# Altium integrated library Analog Devices Interface and Isolation Digital Isolators.IntLib: 645 symbols (part 29 of 36)
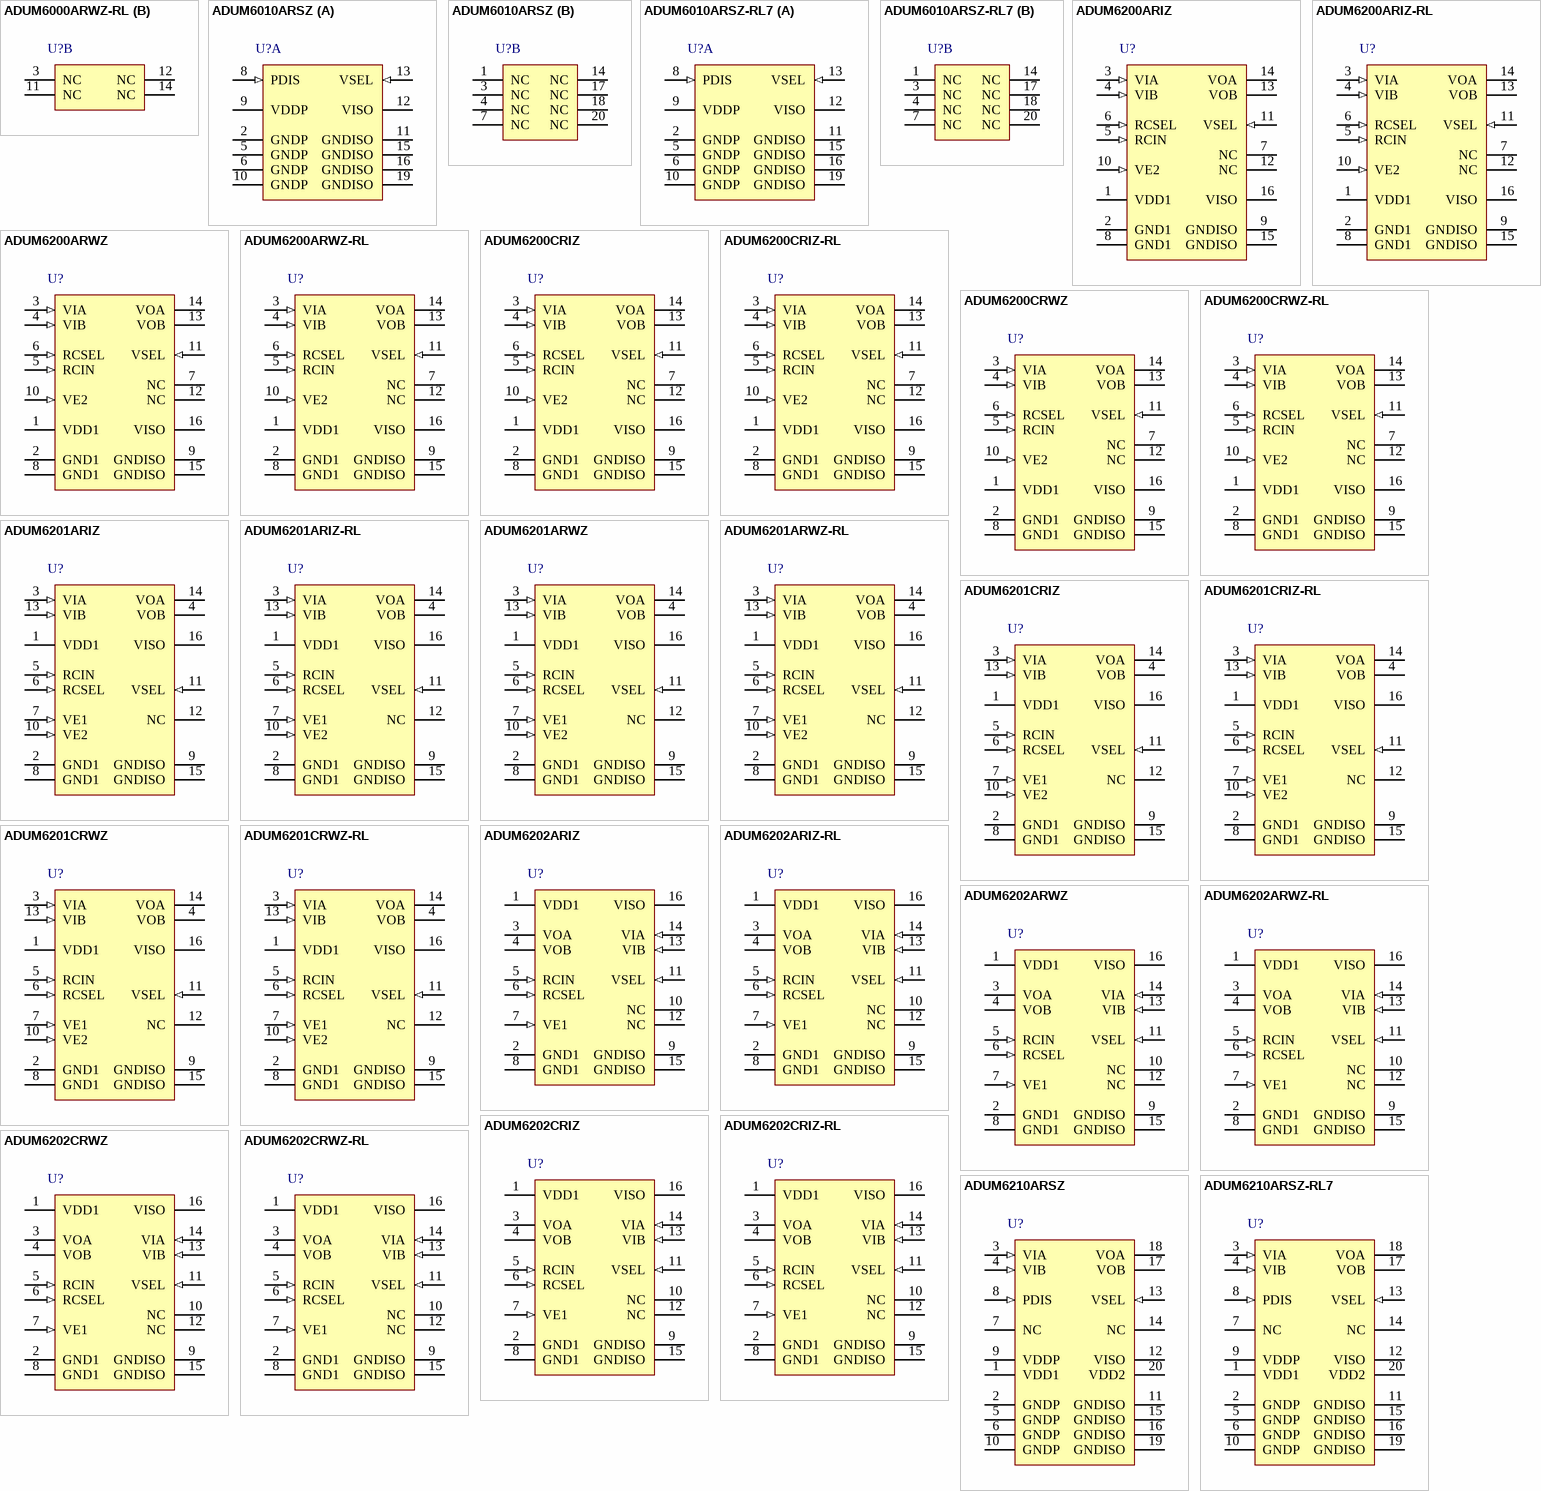
[diagram p48: symbols ADUM6000ARWZ-RL to ADUM6210ARSZ-RL7]

## ADUM6200CRWZ-RL
designator U?
Dual Channel, 5 kV Isolator with Integrated DC / DC Converter, 5 KV rms Insulation Rating, 25 Mbps Data Rate, 70 ns Delay, Industrial, 16-pin SOIC (RW-16), Reel; Manufacturer: Analog Devices; PartNumber: ADUM6200CRWZ-RL; Insulation Rating (kVrms): 5; Max Data Rate: 25Mbps; Prop Delay: 70ns; DatasheetVersion: Rev. C; PackageVersion: 032707-B, 03/2007; PackageReference: RW-16; PackageDescription: 16-Pin Standard Small Outline Package, Body 10.3 x 7.5 mm, Pitch 1.27 mm; Supplier 1: Mouser; Supplier Part Number 1: 584-ADUM6200CRWZ-R; Max Operating Temp (degreesC): 105; Mounting Technology: Surface Mount; Code_JEDEC: MS-013-AA; ComponentLink1Description: Manufacturer URL; ComponentLink1URL: http://www.analog.com/en/index.html; ComponentLink2Description: Datasheet; ComponentLink2URL: http://www.analog.com/static/imported-files/data_sheets/ADuM6200_6201_6202.pdf; ComponentLink3Description: Package Specification; ComponentLink3URL: http://www.analog.com/static/imported-files/packages/PKG_PDF/SOIC_WIDE%20%28RW%29/RW_16.pdf
footprint ADI-RW-16_N (SOIC, 16-Leads, Body 10.3x7.5mm, Pitch 1.27mm, IPC Medium Density)
footprint ADI-RW-16_L (SOIC, 16-Leads, Body 10.3x7.5mm, Pitch 1.27mm, IPC High Density)
footprint ADI-RW-16_M (SOIC, 16-Leads, Body 10.3x7.5mm, Pitch 1.27mm, IPC Low Density)
pins: 1 VDD1 (power) "Primary Supply Voltage, 3.0 V to 5.5 V.", 2 GND1 (power) "Ground Reference for the Primary Side of the Isolator. Pin 2 and Pin 8 are internally connected to each other, and it is recommended that both pins be connected to a common ground.", 3 VIA (in) "Logic Input A.", 4 VIB (in) "Logic Input B.", 5 RCIN (in) "Regulation Control Input. This pin must be connected to the RCOUT pin of a master isoPower device or tied low. This pin must not be tied high if RCSEL is low; this combination causes excessive voltage on the secondary side (See Datasheet)", 6 RCSEL (in) "Control Input. Determines self-regulation mode (RCSEL high) or slave mode (RCSEL low), allowing external regulation. This pin is weakly pulled to the high state. In noisy environments, tie this pin either high or low.", 7 NC "No Internal Connection.", 8 GND1 (power) "Ground Reference for the Primary Side of the Isolator. Pin 2 and Pin 8 are internally connected to each other, and it is recommended that both pins be connected to a common ground.", 9 GNDISO (power) "Ground Reference for the Secondary Side of the Isolator. Pin 9 and Pin 15 are internally connected to each other, and it is recommended that both pins be connected to a common ground.", 10 VE2 (in) "Data Enable Input. When this pin is high or not connected, the secondary outputs are active; when this pin is low, the outputs are in a high-Z state.", 11 VSEL (in) "Output Voltage Selection. When VSEL = VISO, the VISO setpoint is 5.0 V. When VSEL = GNDISO, the VISO setpoint is 3.3 V. In slave regulation mode, this pin has no function.", 12 NC "No Internal Connection.", 13 VOB (hiz) "Logic Output B.", 14 VOA (hiz) "Logic Output A.", 15 GNDISO (power) "Ground Reference for the Secondary Side of the Isolator. Pin 9 and Pin 15 are internally connected to each other, and it is recommended that both pins be connected to a common ground.", 16 VISO (power) "Secondary Supply Voltage. Output for secondary side isolated data channels and external loads."

## ADUM6201ARIZ
designator U?
Dual Channel, 5 kV Isolator with Integrated DC / DC Converter, 5 KV rms Insulation Rating, 1 Mbps Data Rate, 100 ns Delay, Industrial, 16-pin SOIC (RI-16-1), Tube; Manufacturer: Analog Devices; PartNumber: ADUM6201ARIZ; Insulation Rating (kVrms): 5; Max Data Rate: 1Mbps; Prop Delay: 100ns; DatasheetVersion: Rev. C; PackageVersion: 10-12-2010-A, 02/2012; PackageReference: RI-16-1; PackageDescription: 16-Pin Standard Small Outline Package, with Increased Creepage, Body 12.8 x 7.5 mm, Pitch 1.27 mm; Supplier 1: Digi-Key; Supplier Part Number 1: ADUM6201ARIZ-ND; Max Operating Temp (degreesC): 105; Mounting Technology: Surface Mount; Code_JEDEC: MS-013-AC; ComponentLink1Description: Manufacturer URL; ComponentLink1URL: http://www.analog.com/en/index.html; ComponentLink2Description: Datasheet; ComponentLink2URL: http://www.analog.com/static/imported-files/data_sheets/ADuM6200_6201_6202.pdf; ComponentLink3Description: Package Specification; ComponentLink3URL: http://www.analog.com/static/imported-files/data_sheets/ADuM2400_2401_2402.pdf
footprint ADI-RI-16-1_N (SOIC, 16-Leads, Body 12.8x7.5mm, Pitch 1.27mm, IPC Medium Density)
footprint ADI-RI-16-1_L (SOIC, 16-Leads, Body 12.8x7.5mm, Pitch 1.27mm, IPC High Density)
footprint ADI-RI-16-1_M (SOIC, 16-Leads, Body 12.8x7.5mm, Pitch 1.27mm, IPC Low Density)
pins: 1 VDD1 (power) "Primary Supply Voltage, 3.0 V to 5.5 V.", 2 GND1 (power) "Ground 1. Ground reference for the isolator primary side. Pin 2 and Pin 8 are internally connected to each other, and it is recommended that both pins be connected to a common ground.", 3 VIA (in) "Logic Input A.", 4 VOB (hiz) "Logic Output B.", 5 RCIN (in) "Regulation Control Input. This pin must be connected to the RCOUT pin of a master isoPower device or tied low. Note that this pin must not be tied high if RCSEL is low; this combination causes excessive voltage on the (See Datasheet)", 6 RCSEL (in) "Control Input. Determines self-regulation mode (RCSEL high) or slave mode (RCSEL low), allowing external regulation. This pin is weakly pulled to the high state. In noisy environments, tie this pin either high or low.", 7 VE1 (in) "Data Enable Input. When this pin is high or not connected, the primary output is active; when this pin is low, the output is in a high-Z state.", 8 GND1 (power) "Ground 1. Ground reference for the isolator primary side. Pin 2 and Pin 8 are internally connected to each other, and it is recommended that both pins be connected to a common ground.", 9 GNDISO (power) "Ground Reference for Isolator Side 2. Pin 9 and Pin 15 are internally connected to each other, and it is recommended that both pins be connected to a common ground.", 10 VE2 (in) "Data Enable Input. When this pin is high or not connected, the secondary outputs are active; when this pin is low, the outputs are in a high-Z state.", 11 VSEL (in) "Output Voltage Selection. When VSEL = VISO, the VISO setpoint is 5.0 V. When VSEL = GNDISO, the VISO setpoint is 3.3 V. In slave regulation mode, this pin has no function.", 12 NC "No Internal Connection.", 13 VIB (in) "Logic Input B.", 14 VOA (hiz) "Logic Output A.", 15 GNDISO (power) "Ground Reference for Isolator Side 2. Pin 9 and Pin 15 are internally connected to each other, and it is recommended that both pins be connected to a common ground.", 16 VISO (power) "Secondary Supply Voltage. Output for secondary side isolated data channels and external loads."

## ADUM6201ARIZ-RL
designator U?
Dual Channel, 5 kV Isolator with Integrated DC / DC Converter, 5 KV rms Insulation Rating, 1 Mbps Data Rate, 100 ns Delay, Industrial, 16-pin SOIC (RI-16-1), Reel; Manufacturer: Analog Devices; PartNumber: ADUM6201ARIZ-RL; Insulation Rating (kVrms): 5; Max Data Rate: 1Mbps; Prop Delay: 100ns; DatasheetVersion: Rev. C; PackageVersion: 10-12-2010-A, 02/2012; PackageReference: RI-16-1; PackageDescription: 16-Pin Standard Small Outline Package, with Increased Creepage, Body 12.8 x 7.5 mm, Pitch 1.27 mm; Supplier 1: Digi-Key; Supplier Part Number 1: ADUM6201ARIZ-RL-ND; Max Operating Temp (degreesC): 105; Mounting Technology: Surface Mount; Code_JEDEC: MS-013-AC; ComponentLink1Description: Manufacturer URL; ComponentLink1URL: http://www.analog.com/en/index.html; ComponentLink2Description: Datasheet; ComponentLink2URL: http://www.analog.com/static/imported-files/data_sheets/ADuM6200_6201_6202.pdf; ComponentLink3Description: Package Specification; ComponentLink3URL: http://www.analog.com/static/imported-files/data_sheets/ADuM2400_2401_2402.pdf
footprint ADI-RI-16-1_N (SOIC, 16-Leads, Body 12.8x7.5mm, Pitch 1.27mm, IPC Medium Density)
footprint ADI-RI-16-1_L (SOIC, 16-Leads, Body 12.8x7.5mm, Pitch 1.27mm, IPC High Density)
footprint ADI-RI-16-1_M (SOIC, 16-Leads, Body 12.8x7.5mm, Pitch 1.27mm, IPC Low Density)
pins: 1 VDD1 (power) "Primary Supply Voltage, 3.0 V to 5.5 V.", 2 GND1 (power) "Ground 1. Ground reference for the isolator primary side. Pin 2 and Pin 8 are internally connected to each other, and it is recommended that both pins be connected to a common ground.", 3 VIA (in) "Logic Input A.", 4 VOB (hiz) "Logic Output B.", 5 RCIN (in) "Regulation Control Input. This pin must be connected to the RCOUT pin of a master isoPower device or tied low. Note that this pin must not be tied high if RCSEL is low; this combination causes excessive voltage on the (See Datasheet)", 6 RCSEL (in) "Control Input. Determines self-regulation mode (RCSEL high) or slave mode (RCSEL low), allowing external regulation. This pin is weakly pulled to the high state. In noisy environments, tie this pin either high or low.", 7 VE1 (in) "Data Enable Input. When this pin is high or not connected, the primary output is active; when this pin is low, the output is in a high-Z state.", 8 GND1 (power) "Ground 1. Ground reference for the isolator primary side. Pin 2 and Pin 8 are internally connected to each other, and it is recommended that both pins be connected to a common ground.", 9 GNDISO (power) "Ground Reference for Isolator Side 2. Pin 9 and Pin 15 are internally connected to each other, and it is recommended that both pins be connected to a common ground.", 10 VE2 (in) "Data Enable Input. When this pin is high or not connected, the secondary outputs are active; when this pin is low, the outputs are in a high-Z state.", 11 VSEL (in) "Output Voltage Selection. When VSEL = VISO, the VISO setpoint is 5.0 V. When VSEL = GNDISO, the VISO setpoint is 3.3 V. In slave regulation mode, this pin has no function.", 12 NC "No Internal Connection.", 13 VIB (in) "Logic Input B.", 14 VOA (hiz) "Logic Output A.", 15 GNDISO (power) "Ground Reference for Isolator Side 2. Pin 9 and Pin 15 are internally connected to each other, and it is recommended that both pins be connected to a common ground.", 16 VISO (power) "Secondary Supply Voltage. Output for secondary side isolated data channels and external loads."

## ADUM6201ARWZ
designator U?
Dual Channel, 5 kV Isolator with Integrated DC / DC Converter, 5 KV rms Insulation Rating, 1 Mbps Data Rate, 100 ns Delay, Industrial, 16-pin SOIC (RW-16), Tube; Manufacturer: Analog Devices; PartNumber: ADUM6201ARWZ; Insulation Rating (kVrms): 5; Max Data Rate: 1Mbps; Prop Delay: 100ns; DatasheetVersion: Rev. C; PackageVersion: 032707-B, 03/2007; PackageReference: RW-16; PackageDescription: 16-Pin Standard Small Outline Package, Body 10.3 x 7.5 mm, Pitch 1.27 mm; Supplier 1: Digi-Key; Supplier Part Number 1: ADUM6201ARWZ-ND; Max Operating Temp (degreesC): 105; Mounting Technology: Surface Mount; Code_JEDEC: MS-013-AA; ComponentLink1Description: Manufacturer URL; ComponentLink1URL: http://www.analog.com/en/index.html; ComponentLink2Description: Datasheet; ComponentLink2URL: http://www.analog.com/static/imported-files/data_sheets/ADuM6200_6201_6202.pdf; ComponentLink3Description: Package Specification; ComponentLink3URL: http://www.analog.com/static/imported-files/packages/PKG_PDF/SOIC_WIDE%20%28RW%29/RW_16.pdf
footprint ADI-RW-16_N (SOIC, 16-Leads, Body 10.3x7.5mm, Pitch 1.27mm, IPC Medium Density)
footprint ADI-RW-16_L (SOIC, 16-Leads, Body 10.3x7.5mm, Pitch 1.27mm, IPC High Density)
footprint ADI-RW-16_M (SOIC, 16-Leads, Body 10.3x7.5mm, Pitch 1.27mm, IPC Low Density)
pins: 1 VDD1 (power) "Primary Supply Voltage, 3.0 V to 5.5 V.", 2 GND1 (power) "Ground 1. Ground reference for the isolator primary side. Pin 2 and Pin 8 are internally connected to each other, and it is recommended that both pins be connected to a common ground.", 3 VIA (in) "Logic Input A.", 4 VOB (hiz) "Logic Output B.", 5 RCIN (in) "Regulation Control Input. This pin must be connected to the RCOUT pin of a master isoPower device or tied low. Note that this pin must not be tied high if RCSEL is low; this combination causes excessive voltage on the (See Datasheet)", 6 RCSEL (in) "Control Input. Determines self-regulation mode (RCSEL high) or slave mode (RCSEL low), allowing external regulation. This pin is weakly pulled to the high state. In noisy environments, tie this pin either high or low.", 7 VE1 (in) "Data Enable Input. When this pin is high or not connected, the primary output is active; when this pin is low, the output is in a high-Z state.", 8 GND1 (power) "Ground 1. Ground reference for the isolator primary side. Pin 2 and Pin 8 are internally connected to each other, and it is recommended that both pins be connected to a common ground.", 9 GNDISO (power) "Ground Reference for Isolator Side 2. Pin 9 and Pin 15 are internally connected to each other, and it is recommended that both pins be connected to a common ground.", 10 VE2 (in) "Data Enable Input. When this pin is high or not connected, the secondary outputs are active; when this pin is low, the outputs are in a high-Z state.", 11 VSEL (in) "Output Voltage Selection. When VSEL = VISO, the VISO setpoint is 5.0 V. When VSEL = GNDISO, the VISO setpoint is 3.3 V. In slave regulation mode, this pin has no function.", 12 NC "No Internal Connection.", 13 VIB (in) "Logic Input B.", 14 VOA (hiz) "Logic Output A.", 15 GNDISO (power) "Ground Reference for Isolator Side 2. Pin 9 and Pin 15 are internally connected to each other, and it is recommended that both pins be connected to a common ground.", 16 VISO (power) "Secondary Supply Voltage. Output for secondary side isolated data channels and external loads."

## ADUM6201ARWZ-RL
designator U?
Dual Channel, 5 kV Isolator with Integrated DC / DC Converter, 5 KV rms Insulation Rating, 1 Mbps Data Rate, 100 ns Delay, Industrial, 16-pin SOIC (RW-16), Reel; Manufacturer: Analog Devices; PartNumber: ADUM6201ARWZ-RL; Insulation Rating (kVrms): 5; Max Data Rate: 1Mbps; Prop Delay: 100ns; DatasheetVersion: Rev. C; PackageVersion: 032707-B, 03/2007; PackageReference: RW-16; PackageDescription: 16-Pin Standard Small Outline Package, Body 10.3 x 7.5 mm, Pitch 1.27 mm; Supplier 1: Mouser; Supplier Part Number 1: 584-ADUM6201ARWZ-R; Max Operating Temp (degreesC): 105; Mounting Technology: Surface Mount; Code_JEDEC: MS-013-AA; ComponentLink1Description: Manufacturer URL; ComponentLink1URL: http://www.analog.com/en/index.html; ComponentLink2Description: Datasheet; ComponentLink2URL: http://www.analog.com/static/imported-files/data_sheets/ADuM6200_6201_6202.pdf; ComponentLink3Description: Package Specification; ComponentLink3URL: http://www.analog.com/static/imported-files/packages/PKG_PDF/SOIC_WIDE%20%28RW%29/RW_16.pdf
footprint ADI-RW-16_N (SOIC, 16-Leads, Body 10.3x7.5mm, Pitch 1.27mm, IPC Medium Density)
footprint ADI-RW-16_L (SOIC, 16-Leads, Body 10.3x7.5mm, Pitch 1.27mm, IPC High Density)
footprint ADI-RW-16_M (SOIC, 16-Leads, Body 10.3x7.5mm, Pitch 1.27mm, IPC Low Density)
pins: 1 VDD1 (power) "Primary Supply Voltage, 3.0 V to 5.5 V.", 2 GND1 (power) "Ground 1. Ground reference for the isolator primary side. Pin 2 and Pin 8 are internally connected to each other, and it is recommended that both pins be connected to a common ground.", 3 VIA (in) "Logic Input A.", 4 VOB (hiz) "Logic Output B.", 5 RCIN (in) "Regulation Control Input. This pin must be connected to the RCOUT pin of a master isoPower device or tied low. Note that this pin must not be tied high if RCSEL is low; this combination causes excessive voltage on the (See Datasheet)", 6 RCSEL (in) "Control Input. Determines self-regulation mode (RCSEL high) or slave mode (RCSEL low), allowing external regulation. This pin is weakly pulled to the high state. In noisy environments, tie this pin either high or low.", 7 VE1 (in) "Data Enable Input. When this pin is high or not connected, the primary output is active; when this pin is low, the output is in a high-Z state.", 8 GND1 (power) "Ground 1. Ground reference for the isolator primary side. Pin 2 and Pin 8 are internally connected to each other, and it is recommended that both pins be connected to a common ground.", 9 GNDISO (power) "Ground Reference for Isolator Side 2. Pin 9 and Pin 15 are internally connected to each other, and it is recommended that both pins be connected to a common ground.", 10 VE2 (in) "Data Enable Input. When this pin is high or not connected, the secondary outputs are active; when this pin is low, the outputs are in a high-Z state.", 11 VSEL (in) "Output Voltage Selection. When VSEL = VISO, the VISO setpoint is 5.0 V. When VSEL = GNDISO, the VISO setpoint is 3.3 V. In slave regulation mode, this pin has no function.", 12 NC "No Internal Connection.", 13 VIB (in) "Logic Input B.", 14 VOA (hiz) "Logic Output A.", 15 GNDISO (power) "Ground Reference for Isolator Side 2. Pin 9 and Pin 15 are internally connected to each other, and it is recommended that both pins be connected to a common ground.", 16 VISO (power) "Secondary Supply Voltage. Output for secondary side isolated data channels and external loads."

## ADUM6201CRIZ
designator U?
Dual Channel, 5 kV Isolator with Integrated DC / DC Converter, 5 KV rms Insulation Rating, 25 Mbps Data Rate, 70 ns Delay, Industrial, 16-pin SOIC (RI-16-1), Tube; Manufacturer: Analog Devices; PartNumber: ADUM6201CRIZ; Insulation Rating (kVrms): 5; Max Data Rate: 25Mbps; Prop Delay: 70ns; DatasheetVersion: Rev. C; PackageVersion: 10-12-2010-A, 02/2012; PackageReference: RI-16-1; PackageDescription: 16-Pin Standard Small Outline Package, with Increased Creepage, Body 12.8 x 7.5 mm, Pitch 1.27 mm; Supplier 1: Digi-Key; Supplier Part Number 1: ADUM6201CRIZ-ND; Max Operating Temp (degreesC): 105; Mounting Technology: Surface Mount; Code_JEDEC: MS-013-AC; ComponentLink1Description: Manufacturer URL; ComponentLink1URL: http://www.analog.com/en/index.html; ComponentLink2Description: Datasheet; ComponentLink2URL: http://www.analog.com/static/imported-files/data_sheets/ADuM6200_6201_6202.pdf; ComponentLink3Description: Package Specification; ComponentLink3URL: http://www.analog.com/static/imported-files/data_sheets/ADuM2400_2401_2402.pdf
footprint ADI-RI-16-1_N (SOIC, 16-Leads, Body 12.8x7.5mm, Pitch 1.27mm, IPC Medium Density)
footprint ADI-RI-16-1_L (SOIC, 16-Leads, Body 12.8x7.5mm, Pitch 1.27mm, IPC High Density)
footprint ADI-RI-16-1_M (SOIC, 16-Leads, Body 12.8x7.5mm, Pitch 1.27mm, IPC Low Density)
pins: 1 VDD1 (power) "Primary Supply Voltage, 3.0 V to 5.5 V.", 2 GND1 (power) "Ground 1. Ground reference for the isolator primary side. Pin 2 and Pin 8 are internally connected to each other, and it is recommended that both pins be connected to a common ground.", 3 VIA (in) "Logic Input A.", 4 VOB (hiz) "Logic Output B.", 5 RCIN (in) "Regulation Control Input. This pin must be connected to the RCOUT pin of a master isoPower device or tied low. Note that this pin must not be tied high if RCSEL is low; this combination causes excessive voltage on the (See Datasheet)", 6 RCSEL (in) "Control Input. Determines self-regulation mode (RCSEL high) or slave mode (RCSEL low), allowing external regulation. This pin is weakly pulled to the high state. In noisy environments, tie this pin either high or low.", 7 VE1 (in) "Data Enable Input. When this pin is high or not connected, the primary output is active; when this pin is low, the output is in a high-Z state.", 8 GND1 (power) "Ground 1. Ground reference for the isolator primary side. Pin 2 and Pin 8 are internally connected to each other, and it is recommended that both pins be connected to a common ground.", 9 GNDISO (power) "Ground Reference for Isolator Side 2. Pin 9 and Pin 15 are internally connected to each other, and it is recommended that both pins be connected to a common ground.", 10 VE2 (in) "Data Enable Input. When this pin is high or not connected, the secondary outputs are active; when this pin is low, the outputs are in a high-Z state.", 11 VSEL (in) "Output Voltage Selection. When VSEL = VISO, the VISO setpoint is 5.0 V. When VSEL = GNDISO, the VISO setpoint is 3.3 V. In slave regulation mode, this pin has no function.", 12 NC "No Internal Connection.", 13 VIB (in) "Logic Input B.", 14 VOA (hiz) "Logic Output A.", 15 GNDISO (power) "Ground Reference for Isolator Side 2. Pin 9 and Pin 15 are internally connected to each other, and it is recommended that both pins be connected to a common ground.", 16 VISO (power) "Secondary Supply Voltage. Output for secondary side isolated data channels and external loads."

## ADUM6201CRIZ-RL
designator U?
Dual Channel, 5 kV Isolator with Integrated DC / DC Converter, 5 KV rms Insulation Rating, 25 Mbps Data Rate, 70 ns Delay, Industrial, 16-pin SOIC (RI-16-1), Reel; Manufacturer: Analog Devices; PartNumber: ADUM6201CRIZ-RL; Insulation Rating (kVrms): 5; Max Data Rate: 25Mbps; Prop Delay: 70ns; DatasheetVersion: Rev. C; PackageVersion: 10-12-2010-A, 02/2012; PackageReference: RI-16-1; PackageDescription: 16-Pin Standard Small Outline Package, with Increased Creepage, Body 12.8 x 7.5 mm, Pitch 1.27 mm; Supplier 1: Digi-Key; Supplier Part Number 1: ADUM6201CRIZ-RL-ND; Max Operating Temp (degreesC): 105; Mounting Technology: Surface Mount; Code_JEDEC: MS-013-AC; ComponentLink1Description: Manufacturer URL; ComponentLink1URL: http://www.analog.com/en/index.html; ComponentLink2Description: Datasheet; ComponentLink2URL: http://www.analog.com/static/imported-files/data_sheets/ADuM6200_6201_6202.pdf; ComponentLink3Description: Package Specification; ComponentLink3URL: http://www.analog.com/static/imported-files/data_sheets/ADuM2400_2401_2402.pdf
footprint ADI-RI-16-1_N (SOIC, 16-Leads, Body 12.8x7.5mm, Pitch 1.27mm, IPC Medium Density)
footprint ADI-RI-16-1_L (SOIC, 16-Leads, Body 12.8x7.5mm, Pitch 1.27mm, IPC High Density)
footprint ADI-RI-16-1_M (SOIC, 16-Leads, Body 12.8x7.5mm, Pitch 1.27mm, IPC Low Density)
pins: 1 VDD1 (power) "Primary Supply Voltage, 3.0 V to 5.5 V.", 2 GND1 (power) "Ground 1. Ground reference for the isolator primary side. Pin 2 and Pin 8 are internally connected to each other, and it is recommended that both pins be connected to a common ground.", 3 VIA (in) "Logic Input A.", 4 VOB (hiz) "Logic Output B.", 5 RCIN (in) "Regulation Control Input. This pin must be connected to the RCOUT pin of a master isoPower device or tied low. Note that this pin must not be tied high if RCSEL is low; this combination causes excessive voltage on the (See Datasheet)", 6 RCSEL (in) "Control Input. Determines self-regulation mode (RCSEL high) or slave mode (RCSEL low), allowing external regulation. This pin is weakly pulled to the high state. In noisy environments, tie this pin either high or low.", 7 VE1 (in) "Data Enable Input. When this pin is high or not connected, the primary output is active; when this pin is low, the output is in a high-Z state.", 8 GND1 (power) "Ground 1. Ground reference for the isolator primary side. Pin 2 and Pin 8 are internally connected to each other, and it is recommended that both pins be connected to a common ground.", 9 GNDISO (power) "Ground Reference for Isolator Side 2. Pin 9 and Pin 15 are internally connected to each other, and it is recommended that both pins be connected to a common ground.", 10 VE2 (in) "Data Enable Input. When this pin is high or not connected, the secondary outputs are active; when this pin is low, the outputs are in a high-Z state.", 11 VSEL (in) "Output Voltage Selection. When VSEL = VISO, the VISO setpoint is 5.0 V. When VSEL = GNDISO, the VISO setpoint is 3.3 V. In slave regulation mode, this pin has no function.", 12 NC "No Internal Connection.", 13 VIB (in) "Logic Input B.", 14 VOA (hiz) "Logic Output A.", 15 GNDISO (power) "Ground Reference for Isolator Side 2. Pin 9 and Pin 15 are internally connected to each other, and it is recommended that both pins be connected to a common ground.", 16 VISO (power) "Secondary Supply Voltage. Output for secondary side isolated data channels and external loads."

## ADUM6201CRWZ
designator U?
Dual Channel, 5 kV Isolator with Integrated DC / DC Converter, 5 KV rms Insulation Rating, 25 Mbps Data Rate, 70 ns Delay, Industrial, 16-pin SOIC (RW-16), Tube; Manufacturer: Analog Devices; PartNumber: ADUM6201CRWZ; Insulation Rating (kVrms): 5; Max Data Rate: 25Mbps; Prop Delay: 70ns; DatasheetVersion: Rev. C; PackageVersion: 032707-B, 03/2007; PackageReference: RW-16; PackageDescription: 16-Pin Standard Small Outline Package, Body 10.3 x 7.5 mm, Pitch 1.27 mm; Supplier 1: Digi-Key; Supplier Part Number 1: ADUM6201CRWZ-ND; Max Operating Temp (degreesC): 105; Mounting Technology: Surface Mount; Code_JEDEC: MS-013-AA; ComponentLink1Description: Manufacturer URL; ComponentLink1URL: http://www.analog.com/en/index.html; ComponentLink2Description: Datasheet; ComponentLink2URL: http://www.analog.com/static/imported-files/data_sheets/ADuM6200_6201_6202.pdf; ComponentLink3Description: Package Specification; ComponentLink3URL: http://www.analog.com/static/imported-files/packages/PKG_PDF/SOIC_WIDE%20%28RW%29/RW_16.pdf
footprint ADI-RW-16_N (SOIC, 16-Leads, Body 10.3x7.5mm, Pitch 1.27mm, IPC Medium Density)
footprint ADI-RW-16_L (SOIC, 16-Leads, Body 10.3x7.5mm, Pitch 1.27mm, IPC High Density)
footprint ADI-RW-16_M (SOIC, 16-Leads, Body 10.3x7.5mm, Pitch 1.27mm, IPC Low Density)
pins: 1 VDD1 (power) "Primary Supply Voltage, 3.0 V to 5.5 V.", 2 GND1 (power) "Ground 1. Ground reference for the isolator primary side. Pin 2 and Pin 8 are internally connected to each other, and it is recommended that both pins be connected to a common ground.", 3 VIA (in) "Logic Input A.", 4 VOB (hiz) "Logic Output B.", 5 RCIN (in) "Regulation Control Input. This pin must be connected to the RCOUT pin of a master isoPower device or tied low. Note that this pin must not be tied high if RCSEL is low; this combination causes excessive voltage on the (See Datasheet)", 6 RCSEL (in) "Control Input. Determines self-regulation mode (RCSEL high) or slave mode (RCSEL low), allowing external regulation. This pin is weakly pulled to the high state. In noisy environments, tie this pin either high or low.", 7 VE1 (in) "Data Enable Input. When this pin is high or not connected, the primary output is active; when this pin is low, the output is in a high-Z state.", 8 GND1 (power) "Ground 1. Ground reference for the isolator primary side. Pin 2 and Pin 8 are internally connected to each other, and it is recommended that both pins be connected to a common ground.", 9 GNDISO (power) "Ground Reference for Isolator Side 2. Pin 9 and Pin 15 are internally connected to each other, and it is recommended that both pins be connected to a common ground.", 10 VE2 (in) "Data Enable Input. When this pin is high or not connected, the secondary outputs are active; when this pin is low, the outputs are in a high-Z state.", 11 VSEL (in) "Output Voltage Selection. When VSEL = VISO, the VISO setpoint is 5.0 V. When VSEL = GNDISO, the VISO setpoint is 3.3 V. In slave regulation mode, this pin has no function.", 12 NC "No Internal Connection.", 13 VIB (in) "Logic Input B.", 14 VOA (hiz) "Logic Output A.", 15 GNDISO (power) "Ground Reference for Isolator Side 2. Pin 9 and Pin 15 are internally connected to each other, and it is recommended that both pins be connected to a common ground.", 16 VISO (power) "Secondary Supply Voltage. Output for secondary side isolated data channels and external loads."

## ADUM6201CRWZ-RL
designator U?
Dual Channel, 5 kV Isolator with Integrated DC / DC Converter, 5 KV rms Insulation Rating, 25 Mbps Data Rate, 70 ns Delay, Industrial, 16-pin SOIC (RW-16), Reel; Manufacturer: Analog Devices; PartNumber: ADUM6201CRWZ-RL; Insulation Rating (kVrms): 5; Max Data Rate: 25Mbps; Prop Delay: 70ns; DatasheetVersion: Rev. C; PackageVersion: 032707-B, 03/2007; PackageReference: RW-16; PackageDescription: 16-Pin Standard Small Outline Package, Body 10.3 x 7.5 mm, Pitch 1.27 mm; Supplier 1: Mouser; Supplier Part Number 1: 584-ADUM6201CRWZ-R; Max Operating Temp (degreesC): 105; Mounting Technology: Surface Mount; Code_JEDEC: MS-013-AA; ComponentLink1Description: Manufacturer URL; ComponentLink1URL: http://www.analog.com/en/index.html; ComponentLink2Description: Datasheet; ComponentLink2URL: http://www.analog.com/static/imported-files/data_sheets/ADuM6200_6201_6202.pdf; ComponentLink3Description: Package Specification; ComponentLink3URL: http://www.analog.com/static/imported-files/packages/PKG_PDF/SOIC_WIDE%20%28RW%29/RW_16.pdf
footprint ADI-RW-16_N (SOIC, 16-Leads, Body 10.3x7.5mm, Pitch 1.27mm, IPC Medium Density)
footprint ADI-RW-16_L (SOIC, 16-Leads, Body 10.3x7.5mm, Pitch 1.27mm, IPC High Density)
footprint ADI-RW-16_M (SOIC, 16-Leads, Body 10.3x7.5mm, Pitch 1.27mm, IPC Low Density)
pins: 1 VDD1 (power) "Primary Supply Voltage, 3.0 V to 5.5 V.", 2 GND1 (power) "Ground 1. Ground reference for the isolator primary side. Pin 2 and Pin 8 are internally connected to each other, and it is recommended that both pins be connected to a common ground.", 3 VIA (in) "Logic Input A.", 4 VOB (hiz) "Logic Output B.", 5 RCIN (in) "Regulation Control Input. This pin must be connected to the RCOUT pin of a master isoPower device or tied low. Note that this pin must not be tied high if RCSEL is low; this combination causes excessive voltage on the (See Datasheet)", 6 RCSEL (in) "Control Input. Determines self-regulation mode (RCSEL high) or slave mode (RCSEL low), allowing external regulation. This pin is weakly pulled to the high state. In noisy environments, tie this pin either high or low.", 7 VE1 (in) "Data Enable Input. When this pin is high or not connected, the primary output is active; when this pin is low, the output is in a high-Z state.", 8 GND1 (power) "Ground 1. Ground reference for the isolator primary side. Pin 2 and Pin 8 are internally connected to each other, and it is recommended that both pins be connected to a common ground.", 9 GNDISO (power) "Ground Reference for Isolator Side 2. Pin 9 and Pin 15 are internally connected to each other, and it is recommended that both pins be connected to a common ground.", 10 VE2 (in) "Data Enable Input. When this pin is high or not connected, the secondary outputs are active; when this pin is low, the outputs are in a high-Z state.", 11 VSEL (in) "Output Voltage Selection. When VSEL = VISO, the VISO setpoint is 5.0 V. When VSEL = GNDISO, the VISO setpoint is 3.3 V. In slave regulation mode, this pin has no function.", 12 NC "No Internal Connection.", 13 VIB (in) "Logic Input B.", 14 VOA (hiz) "Logic Output A.", 15 GNDISO (power) "Ground Reference for Isolator Side 2. Pin 9 and Pin 15 are internally connected to each other, and it is recommended that both pins be connected to a common ground.", 16 VISO (power) "Secondary Supply Voltage. Output for secondary side isolated data channels and external loads."

## ADUM6202ARIZ
designator U?
Dual Channel, 5 kV Isolator with Integrated DC / DC Converter, 5 KV rms Insulation Rating, 1 Mbps Data Rate, 100 ns Delay, Industrial, 16-pin SOIC (RI-16-1), Tube; Manufacturer: Analog Devices; PartNumber: ADUM6202ARIZ; Insulation Rating (kVrms): 5; Max Data Rate: 1Mbps; Prop Delay: 100ns; DatasheetVersion: Rev. C; PackageVersion: 10-12-2010-A, 02/2012; PackageReference: RI-16-1; PackageDescription: 16-Pin Standard Small Outline Package, with Increased Creepage, Body 12.8 x 7.5 mm, Pitch 1.27 mm; Supplier 1: Digi-Key; Supplier Part Number 1: ADUM6202ARIZ-ND; Max Operating Temp (degreesC): 105; Mounting Technology: Surface Mount; Code_JEDEC: MS-013-AC; ComponentLink1Description: Manufacturer URL; ComponentLink1URL: http://www.analog.com/en/index.html; ComponentLink2Description: Datasheet; ComponentLink2URL: http://www.analog.com/static/imported-files/data_sheets/ADuM6200_6201_6202.pdf; ComponentLink3Description: Package Specification; ComponentLink3URL: http://www.analog.com/static/imported-files/data_sheets/ADuM2400_2401_2402.pdf
footprint ADI-RI-16-1_N (SOIC, 16-Leads, Body 12.8x7.5mm, Pitch 1.27mm, IPC Medium Density)
footprint ADI-RI-16-1_L (SOIC, 16-Leads, Body 12.8x7.5mm, Pitch 1.27mm, IPC High Density)
footprint ADI-RI-16-1_M (SOIC, 16-Leads, Body 12.8x7.5mm, Pitch 1.27mm, IPC Low Density)
pins: 1 VDD1 (power) "Primary Supply Voltage, 3.0 V to 5.5 V.", 2 GND1 (power) "Ground Reference for the Primary Side of the Isolator. Pin 2 and Pin 8 are internally connected to each other, and it is recommended that both pins be connected to a common ground.", 3 VOA (hiz) "Logic Output A.", 4 VOB (hiz) "Logic Output B.", 5 RCIN (in) "Regulation Control Input. This pin must be connected to the RCOUT pin of a master isoPower device or tied low. This pin must not be tied high if RCSEL is low; this combination causes excessive voltage on the secondary side (See Datasheet)", 6 RCSEL (in) "Control Input. Determines self-regulation mode (RCSEL high) or slave mode (RCSEL low), allowing external regulation. This pin is weakly pulled to the high state. In noisy environments, tie this pin either high or low.", 7 VE1 (in) "Data Enable Input. When this pin is high or not connected, the primary output is active; when this pin is low, the output is in a high-Z state.", 8 GND1 (power) "Ground Reference for the Primary Side of the Isolator. Pin 2 and Pin 8 are internally connected to each other, and it is recommended that both pins be connected to a common ground.", 9 GNDISO (power) "Ground Reference for the Secondary Side of the Isolator. Pin 9 and Pin 15 are internally connected to each other, and it is recommended that both pins be connected to a common ground.", 10 NC "No Internal Connection.", 11 VSEL (in) "Output Voltage Selection. When VSEL = VISO, the VISO setpoint is 5.0 V. When VSEL = GNDISO, the VISO setpoint is 3.3 V. In slave regulation mode, this pin has no function.", 12 NC "No Internal Connection.", 13 VIB (in) "Logic Input B.", 14 VIA (in) "Logic Input A.", 15 GNDISO (power) "Ground Reference for the Secondary Side of the Isolator. Pin 9 and Pin 15 are internally connected to each other, and it is recommended that both pins be connected to a common ground.", 16 VISO (power) "Secondary Supply Voltage. Output for secondary side isolated data channels and external loads."

## ADUM6202ARIZ-RL
designator U?
Dual Channel, 5 kV Isolator with Integrated DC / DC Converter, 5 KV rms Insulation Rating, 1 Mbps Data Rate, 100 ns Delay, Industrial, 16-pin SOIC (RI-16-1), Reel; Manufacturer: Analog Devices; PartNumber: ADUM6202ARIZ-RL; Insulation Rating (kVrms): 5; Max Data Rate: 1Mbps; Prop Delay: 100ns; DatasheetVersion: Rev. C; PackageVersion: 10-12-2010-A, 02/2012; PackageReference: RI-16-1; PackageDescription: 16-Pin Standard Small Outline Package, with Increased Creepage, Body 12.8 x 7.5 mm, Pitch 1.27 mm; Supplier 1: Digi-Key; Supplier Part Number 1: ADUM6202ARIZ-RL-ND; Max Operating Temp (degreesC): 105; Mounting Technology: Surface Mount; Code_JEDEC: MS-013-AC; ComponentLink1Description: Manufacturer URL; ComponentLink1URL: http://www.analog.com/en/index.html; ComponentLink2Description: Datasheet; ComponentLink2URL: http://www.analog.com/static/imported-files/data_sheets/ADuM6200_6201_6202.pdf; ComponentLink3Description: Package Specification; ComponentLink3URL: http://www.analog.com/static/imported-files/data_sheets/ADuM2400_2401_2402.pdf
footprint ADI-RI-16-1_N (SOIC, 16-Leads, Body 12.8x7.5mm, Pitch 1.27mm, IPC Medium Density)
footprint ADI-RI-16-1_L (SOIC, 16-Leads, Body 12.8x7.5mm, Pitch 1.27mm, IPC High Density)
footprint ADI-RI-16-1_M (SOIC, 16-Leads, Body 12.8x7.5mm, Pitch 1.27mm, IPC Low Density)
pins: 1 VDD1 (power) "Primary Supply Voltage, 3.0 V to 5.5 V.", 2 GND1 (power) "Ground Reference for the Primary Side of the Isolator. Pin 2 and Pin 8 are internally connected to each other, and it is recommended that both pins be connected to a common ground.", 3 VOA (hiz) "Logic Output A.", 4 VOB (hiz) "Logic Output B.", 5 RCIN (in) "Regulation Control Input. This pin must be connected to the RCOUT pin of a master isoPower device or tied low. This pin must not be tied high if RCSEL is low; this combination causes excessive voltage on the secondary side (See Datasheet)", 6 RCSEL (in) "Control Input. Determines self-regulation mode (RCSEL high) or slave mode (RCSEL low), allowing external regulation. This pin is weakly pulled to the high state. In noisy environments, tie this pin either high or low.", 7 VE1 (in) "Data Enable Input. When this pin is high or not connected, the primary output is active; when this pin is low, the output is in a high-Z state.", 8 GND1 (power) "Ground Reference for the Primary Side of the Isolator. Pin 2 and Pin 8 are internally connected to each other, and it is recommended that both pins be connected to a common ground.", 9 GNDISO (power) "Ground Reference for the Secondary Side of the Isolator. Pin 9 and Pin 15 are internally connected to each other, and it is recommended that both pins be connected to a common ground.", 10 NC "No Internal Connection.", 11 VSEL (in) "Output Voltage Selection. When VSEL = VISO, the VISO setpoint is 5.0 V. When VSEL = GNDISO, the VISO setpoint is 3.3 V. In slave regulation mode, this pin has no function.", 12 NC "No Internal Connection.", 13 VIB (in) "Logic Input B.", 14 VIA (in) "Logic Input A.", 15 GNDISO (power) "Ground Reference for the Secondary Side of the Isolator. Pin 9 and Pin 15 are internally connected to each other, and it is recommended that both pins be connected to a common ground.", 16 VISO (power) "Secondary Supply Voltage. Output for secondary side isolated data channels and external loads."

## ADUM6202ARWZ
designator U?
Dual Channel, 5 kV Isolator with Integrated DC / DC Converter, 5 KV rms Insulation Rating, 1 Mbps Data Rate, 100 ns Delay, Industrial, 16-pin SOIC (RW-16), Tube; Manufacturer: Analog Devices; PartNumber: ADUM6202ARWZ; Insulation Rating (kVrms): 5; Max Data Rate: 1Mbps; Prop Delay: 100ns; DatasheetVersion: Rev. C; PackageVersion: 032707-B, 03/2007; PackageReference: RW-16; PackageDescription: 16-Pin Standard Small Outline Package, Body 10.3 x 7.5 mm, Pitch 1.27 mm; Supplier 1: Digi-Key; Supplier Part Number 1: ADUM6202ARWZ-ND; Max Operating Temp (degreesC): 105; Mounting Technology: Surface Mount; Code_JEDEC: MS-013-AA; ComponentLink1Description: Manufacturer URL; ComponentLink1URL: http://www.analog.com/en/index.html; ComponentLink2Description: Datasheet; ComponentLink2URL: http://www.analog.com/static/imported-files/data_sheets/ADuM6200_6201_6202.pdf; ComponentLink3Description: Package Specification; ComponentLink3URL: http://www.analog.com/static/imported-files/packages/PKG_PDF/SOIC_WIDE%20%28RW%29/RW_16.pdf
footprint ADI-RW-16_N (SOIC, 16-Leads, Body 10.3x7.5mm, Pitch 1.27mm, IPC Medium Density)
footprint ADI-RW-16_L (SOIC, 16-Leads, Body 10.3x7.5mm, Pitch 1.27mm, IPC High Density)
footprint ADI-RW-16_M (SOIC, 16-Leads, Body 10.3x7.5mm, Pitch 1.27mm, IPC Low Density)
pins: 1 VDD1 (power) "Primary Supply Voltage, 3.0 V to 5.5 V.", 2 GND1 (power) "Ground Reference for the Primary Side of the Isolator. Pin 2 and Pin 8 are internally connected to each other, and it is recommended that both pins be connected to a common ground.", 3 VOA (hiz) "Logic Output A.", 4 VOB (hiz) "Logic Output B.", 5 RCIN (in) "Regulation Control Input. This pin must be connected to the RCOUT pin of a master isoPower device or tied low. This pin must not be tied high if RCSEL is low; this combination causes excessive voltage on the secondary side (See Datasheet)", 6 RCSEL (in) "Control Input. Determines self-regulation mode (RCSEL high) or slave mode (RCSEL low), allowing external regulation. This pin is weakly pulled to the high state. In noisy environments, tie this pin either high or low.", 7 VE1 (in) "Data Enable Input. When this pin is high or not connected, the primary output is active; when this pin is low, the output is in a high-Z state.", 8 GND1 (power) "Ground Reference for the Primary Side of the Isolator. Pin 2 and Pin 8 are internally connected to each other, and it is recommended that both pins be connected to a common ground.", 9 GNDISO (power) "Ground Reference for the Secondary Side of the Isolator. Pin 9 and Pin 15 are internally connected to each other, and it is recommended that both pins be connected to a common ground.", 10 NC "No Internal Connection.", 11 VSEL (in) "Output Voltage Selection. When VSEL = VISO, the VISO setpoint is 5.0 V. When VSEL = GNDISO, the VISO setpoint is 3.3 V. In slave regulation mode, this pin has no function.", 12 NC "No Internal Connection.", 13 VIB (in) "Logic Input B.", 14 VIA (in) "Logic Input A.", 15 GNDISO (power) "Ground Reference for the Secondary Side of the Isolator. Pin 9 and Pin 15 are internally connected to each other, and it is recommended that both pins be connected to a common ground.", 16 VISO (power) "Secondary Supply Voltage. Output for secondary side isolated data channels and external loads."

## ADUM6202ARWZ-RL
designator U?
Dual Channel, 5 kV Isolator with Integrated DC / DC Converter, 5 KV rms Insulation Rating, 1 Mbps Data Rate, 100 ns Delay, Industrial, 16-pin SOIC (RW-16), Reel; Manufacturer: Analog Devices; PartNumber: ADUM6202ARWZ-RL; Insulation Rating (kVrms): 5; Max Data Rate: 1Mbps; Prop Delay: 100ns; DatasheetVersion: Rev. C; PackageVersion: 032707-B, 03/2007; PackageReference: RW-16; PackageDescription: 16-Pin Standard Small Outline Package, Body 10.3 x 7.5 mm, Pitch 1.27 mm; Supplier 1: Mouser; Supplier Part Number 1: 584-ADUM6202ARWZ-R; Max Operating Temp (degreesC): 105; Mounting Technology: Surface Mount; Code_JEDEC: MS-013-AA; ComponentLink1Description: Manufacturer URL; ComponentLink1URL: http://www.analog.com/en/index.html; ComponentLink2Description: Datasheet; ComponentLink2URL: http://www.analog.com/static/imported-files/data_sheets/ADuM6200_6201_6202.pdf; ComponentLink3Description: Package Specification; ComponentLink3URL: http://www.analog.com/static/imported-files/packages/PKG_PDF/SOIC_WIDE%20%28RW%29/RW_16.pdf
footprint ADI-RW-16_N (SOIC, 16-Leads, Body 10.3x7.5mm, Pitch 1.27mm, IPC Medium Density)
footprint ADI-RW-16_L (SOIC, 16-Leads, Body 10.3x7.5mm, Pitch 1.27mm, IPC High Density)
footprint ADI-RW-16_M (SOIC, 16-Leads, Body 10.3x7.5mm, Pitch 1.27mm, IPC Low Density)
pins: 1 VDD1 (power) "Primary Supply Voltage, 3.0 V to 5.5 V.", 2 GND1 (power) "Ground Reference for the Primary Side of the Isolator. Pin 2 and Pin 8 are internally connected to each other, and it is recommended that both pins be connected to a common ground.", 3 VOA (hiz) "Logic Output A.", 4 VOB (hiz) "Logic Output B.", 5 RCIN (in) "Regulation Control Input. This pin must be connected to the RCOUT pin of a master isoPower device or tied low. This pin must not be tied high if RCSEL is low; this combination causes excessive voltage on the secondary side (See Datasheet)", 6 RCSEL (in) "Control Input. Determines self-regulation mode (RCSEL high) or slave mode (RCSEL low), allowing external regulation. This pin is weakly pulled to the high state. In noisy environments, tie this pin either high or low.", 7 VE1 (in) "Data Enable Input. When this pin is high or not connected, the primary output is active; when this pin is low, the output is in a high-Z state.", 8 GND1 (power) "Ground Reference for the Primary Side of the Isolator. Pin 2 and Pin 8 are internally connected to each other, and it is recommended that both pins be connected to a common ground.", 9 GNDISO (power) "Ground Reference for the Secondary Side of the Isolator. Pin 9 and Pin 15 are internally connected to each other, and it is recommended that both pins be connected to a common ground.", 10 NC "No Internal Connection.", 11 VSEL (in) "Output Voltage Selection. When VSEL = VISO, the VISO setpoint is 5.0 V. When VSEL = GNDISO, the VISO setpoint is 3.3 V. In slave regulation mode, this pin has no function.", 12 NC "No Internal Connection.", 13 VIB (in) "Logic Input B.", 14 VIA (in) "Logic Input A.", 15 GNDISO (power) "Ground Reference for the Secondary Side of the Isolator. Pin 9 and Pin 15 are internally connected to each other, and it is recommended that both pins be connected to a common ground.", 16 VISO (power) "Secondary Supply Voltage. Output for secondary side isolated data channels and external loads."

## ADUM6202CRIZ
designator U?
Dual Channel, 5 kV Isolator with Integrated DC / DC Converter, 5 KV rms Insulation Rating, 25 Mbps Data Rate, 70 ns Delay, Industrial, 16-pin SOIC (RI-16-1), Tube; Manufacturer: Analog Devices; PartNumber: ADUM6202CRIZ; Insulation Rating (kVrms): 5; Max Data Rate: 25Mbps; Prop Delay: 70ns; DatasheetVersion: Rev. C; PackageVersion: 10-12-2010-A, 02/2012; PackageReference: RI-16-1; PackageDescription: 16-Pin Standard Small Outline Package, with Increased Creepage, Body 12.8 x 7.5 mm, Pitch 1.27 mm; Supplier 1: Digi-Key; Supplier Part Number 1: ADUM6202CRIZ-ND; Max Operating Temp (degreesC): 105; Mounting Technology: Surface Mount; Code_JEDEC: MS-013-AC; ComponentLink1Description: Manufacturer URL; ComponentLink1URL: http://www.analog.com/en/index.html; ComponentLink2Description: Datasheet; ComponentLink2URL: http://www.analog.com/static/imported-files/data_sheets/ADuM6200_6201_6202.pdf; ComponentLink3Description: Package Specification; ComponentLink3URL: http://www.analog.com/static/imported-files/data_sheets/ADuM2400_2401_2402.pdf
footprint ADI-RI-16-1_N (SOIC, 16-Leads, Body 12.8x7.5mm, Pitch 1.27mm, IPC Medium Density)
footprint ADI-RI-16-1_L (SOIC, 16-Leads, Body 12.8x7.5mm, Pitch 1.27mm, IPC High Density)
footprint ADI-RI-16-1_M (SOIC, 16-Leads, Body 12.8x7.5mm, Pitch 1.27mm, IPC Low Density)
pins: 1 VDD1 (power) "Primary Supply Voltage, 3.0 V to 5.5 V.", 2 GND1 (power) "Ground Reference for the Primary Side of the Isolator. Pin 2 and Pin 8 are internally connected to each other, and it is recommended that both pins be connected to a common ground.", 3 VOA (hiz) "Logic Output A.", 4 VOB (hiz) "Logic Output B.", 5 RCIN (in) "Regulation Control Input. This pin must be connected to the RCOUT pin of a master isoPower device or tied low. This pin must not be tied high if RCSEL is low; this combination causes excessive voltage on the secondary side (See Datasheet)", 6 RCSEL (in) "Control Input. Determines self-regulation mode (RCSEL high) or slave mode (RCSEL low), allowing external regulation. This pin is weakly pulled to the high state. In noisy environments, tie this pin either high or low.", 7 VE1 (in) "Data Enable Input. When this pin is high or not connected, the primary output is active; when this pin is low, the output is in a high-Z state.", 8 GND1 (power) "Ground Reference for the Primary Side of the Isolator. Pin 2 and Pin 8 are internally connected to each other, and it is recommended that both pins be connected to a common ground.", 9 GNDISO (power) "Ground Reference for the Secondary Side of the Isolator. Pin 9 and Pin 15 are internally connected to each other, and it is recommended that both pins be connected to a common ground.", 10 NC "No Internal Connection.", 11 VSEL (in) "Output Voltage Selection. When VSEL = VISO, the VISO setpoint is 5.0 V. When VSEL = GNDISO, the VISO setpoint is 3.3 V. In slave regulation mode, this pin has no function.", 12 NC "No Internal Connection.", 13 VIB (in) "Logic Input B.", 14 VIA (in) "Logic Input A.", 15 GNDISO (power) "Ground Reference for the Secondary Side of the Isolator. Pin 9 and Pin 15 are internally connected to each other, and it is recommended that both pins be connected to a common ground.", 16 VISO (power) "Secondary Supply Voltage. Output for secondary side isolated data channels and external loads."